# Altium footprint library adafruit.PCBLIB: 624 footprints (part 26 of 39)
Each footprint in its own frame and in the unit in brackets; x right, y up, seen from the top. Pads: shape width x height; smd on the part's side, far side on the other; paste and mask are expansions set on the pad; w line width, h text height; cw(c..) or ccw(c..) is an arc to the next point about the centre after c.
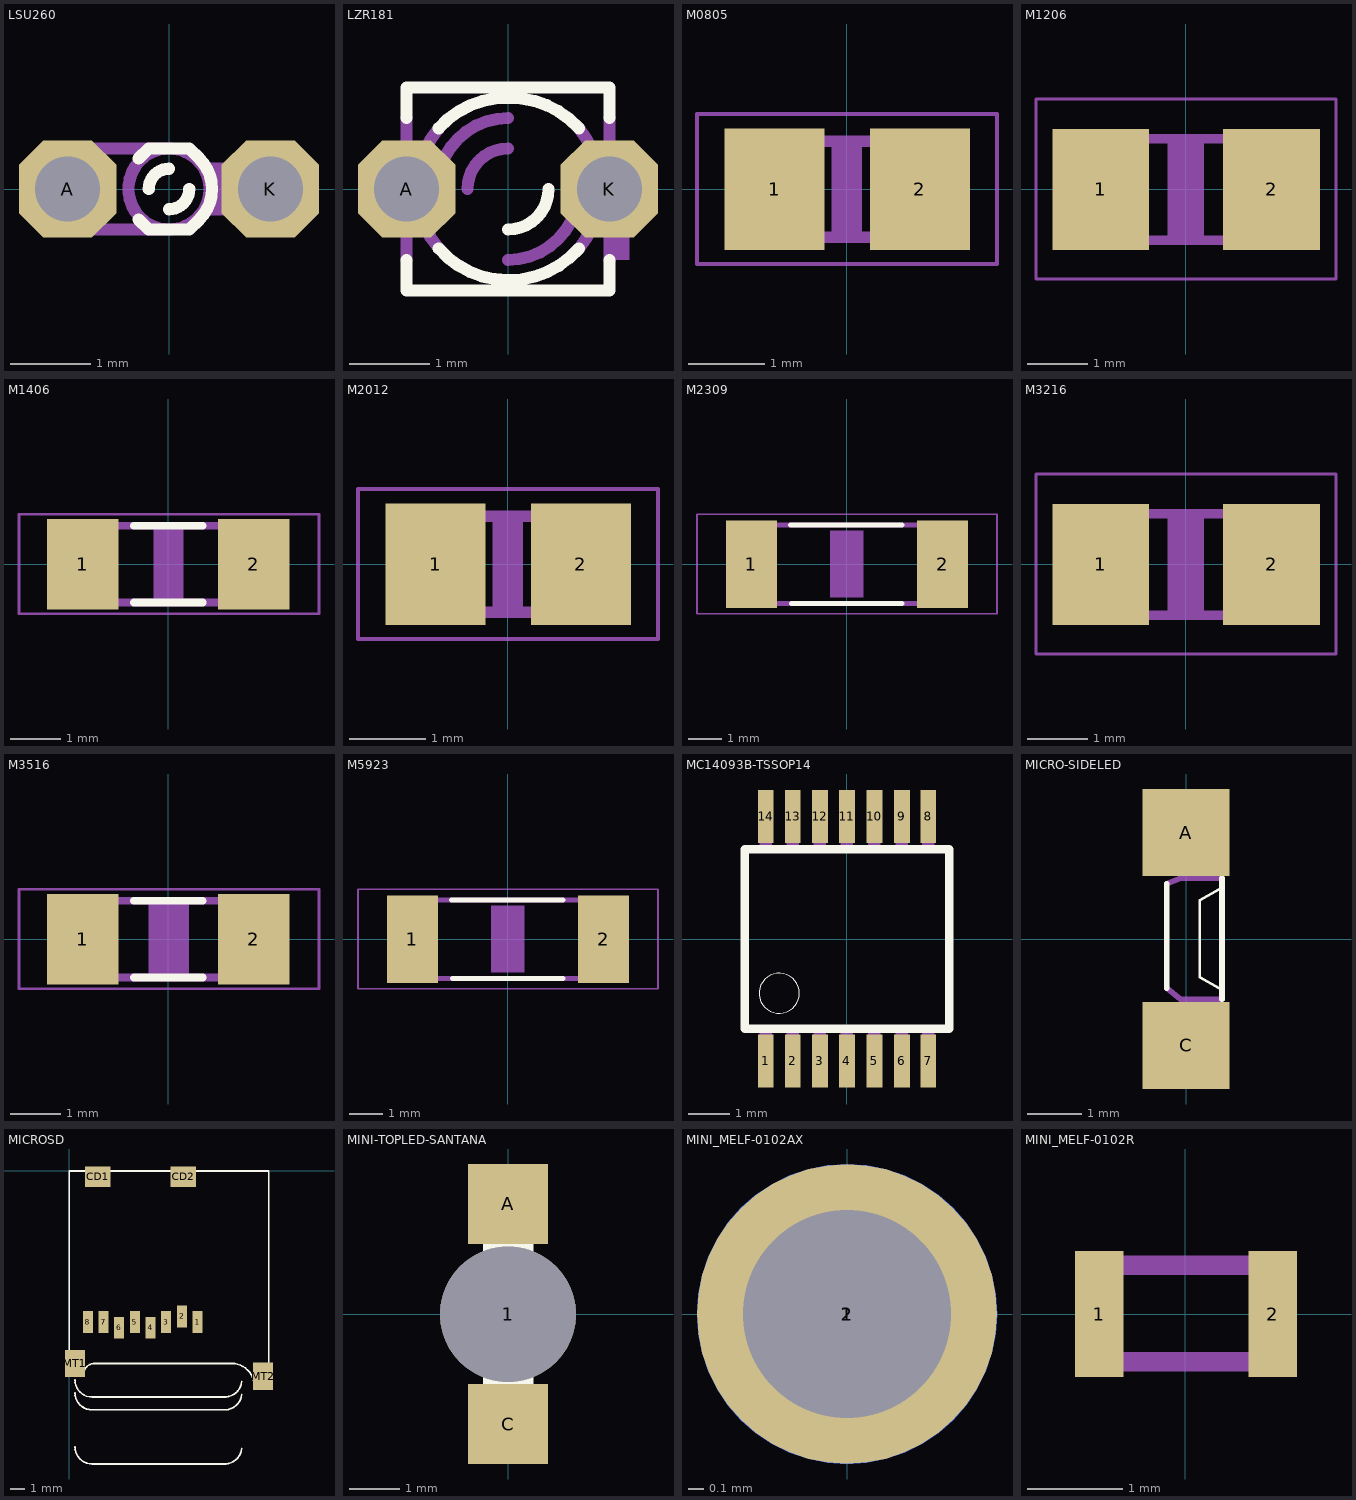
[diagram p25: the footprints below, top view; thin cyan lines are the x and y axes]

## LSU260 [mil]
pads (2):
  oct 48x48 hole 32: A(-50,0) K(50,0)
Top Overlay:
  lines w6: -15,-15 -10,-20 10,-20 15,-15 ccw(c0,0) 15,15 10,20 -10,20 -15,15 ; -10,0 cw(c0,0) 0,10 ; 0,-10 ccw(c0,0) 10,0
Mechanical 16:
  circle w6: c0,0 r20
  rectangle: -55,-10 -45,10
  rectangle: 20,-10 55,10
  lines w6: 0,-20 -45,-20 -45,-10 ; 0,20 -45,20 -45,10 ; 20,-10 55,-10 55,10 20,10 ; -45,-10 -55,-10 -55,10 -45,10 ; -45,-10 -45,10

## LZR181 [mil]
pads (2):
  oct 48x48 hole 32: A(-50,0) K(50,0)
Top Overlay:
  lines w6: -50,-35 -50,-50 50,-50 50,-35 ; -50,35 -50,50 50,50 50,35 ; -34.17,-29.29 ccw(c0,0) 0,-45 ccw(c0.42,0.91) 35,-29.29 ; -34.17,30 cw(c-0.78,0.36) 0,45 cw(c1.19,-0.55) 35,30 ; 0,-20 ccw(c0,0) 20,0
Mechanical 16:
  rectangle: 50,-35 60,10
  rectangle: -60,-10 -50,10
  lines w6: -50,-35 -50,35 ; -35,0 cw(c0,0) 0,35 ; -34.17,-29.29 cw(c0,0) -45,0 cw(c0.96,0.36) -34.17,30 ; -20,0 cw(c0,0) 0,20 ; 0,-35 ccw(c0,0) 35,0 ; 35,-29.29 ccw(c0.42,-1.13) 45,0 ccw(c-0.55,1.48) 35,30 ; 50,-35 50,35

## M0805 [mil]
pads (2):
  rect 52x63 smd: 1(-37.4,0) 2(38,0)
Mechanical 6:
  rectangle: -7.87,-23.62 8,24
Mechanical 16:
  rectangle: -41,-28 -27,28
  rectangle: 27,-28 41,28
  lines w6: -28,-25 28,-25 ; -28,25 28,25
Mechanical 27:
  lines w2: -77.68,-38.7 78,-38.7 78,39 -77.68,39 -77.68,-38.7

## M1206 [mil]
pads (2):
  rect 63x79 smd: 1(-55.12,0) 2(56,0)
Mechanical 6:
  rectangle: -11.81,-31.5 12,32
Mechanical 16:
  rectangle: -67,-36 -44,36
  rectangle: 44,-36 67,36
  lines w6: -45,-33 45,-33 ; -45,33 45,33
Mechanical 27:
  lines w2: -97.36,-58.39 98,-58.39 98,59 -97.36,59 -97.36,-58.39

## M1406 [mil]
pads (2):
  rect 56x71 smd: 1(-66.93,0) 2(67,0)
Top Overlay:
  lines w6: -27,-30 27,-30 ; -27,30 27,30
Mechanical 6:
  rectangle: -11.81,-27.56 12,28
Mechanical 16:
  rectangle: -73,-33 -51,33
  rectangle: 51,-33 73,33
  lines w6: -52,-30 52,-30 ; -52,30 52,30
Mechanical 27:
  lines w2: -117.05,-38.7 118,-38.7 118,39 -117.05,39 -117.05,-38.7

## M2012 [mil]
pads (2):
  rect 52x63 smd: 1(-37.4,0) 2(38,0)
Mechanical 6:
  rectangle: -7.87,-23.62 8,24
Mechanical 16:
  rectangle: -41,-28 -27,28
  rectangle: 27,-28 41,28
  lines w6: -28,-25 28,-25 ; -28,25 28,25
Mechanical 27:
  lines w2: -77.68,-38.7 78,-38.7 78,39 -77.68,39 -77.68,-38.7

## M2309 [mil]
pads (2):
  rect 60x103 smd: 1(-112.2,0) 2(113,0)
Top Overlay:
  lines w6: -66,46 65,46 ; -65,-46 65,-46
Mechanical 6:
  rectangle: -19.69,-39.37 20,40
Mechanical 16:
  rectangle: -120,-49 -94,49
  rectangle: 94,-49 120,49
  lines w6: -96,46 95,46 ; -95,-46 95,-46
Mechanical 27:
  lines w2: -176.1,-58.39 177,-58.39 177,59 -176.1,59 -176.1,-58.39

## M3216 [mil]
pads (2):
  rect 63x79 smd: 1(-55.12,0) 2(56,0)
Mechanical 6:
  rectangle: -11.81,-31.5 12,32
Mechanical 16:
  rectangle: -67,-36 -44,36
  rectangle: 44,-36 67,36
  lines w6: -45,-33 45,-33 ; -45,33 45,33
Mechanical 27:
  lines w2: -97.36,-58.39 98,-58.39 98,59 -97.36,59 -97.36,-58.39

## M3516 [mil]
pads (2):
  rect 56x71 smd: 1(-66.93,0) 2(67,0)
Top Overlay:
  lines w6: -27,-30 27,-30 ; -27,30 27,30
Mechanical 6:
  rectangle: -15.75,-27.56 16,28
Mechanical 16:
  rectangle: -73,-33 -51,33
  rectangle: 51,-33 73,33
  lines w6: -52,-30 52,-30 ; -52,30 52,30
Mechanical 27:
  lines w2: -117.05,-38.7 118,-38.7 118,39 -117.05,39 -117.05,-38.7

## M5923 [mil]
pads (2):
  rect 60x103 smd: 1(-112.2,0) 2(113,0)
Top Overlay:
  lines w6: -66,46 65,46 ; -65,-46 65,-46
Mechanical 6:
  rectangle: -19.69,-39.37 20,40
Mechanical 16:
  rectangle: -120,-49 -94,49
  rectangle: 94,-49 120,49
  lines w6: -96,46 95,46 ; -95,-46 95,-46
Mechanical 27:
  lines w2: -176.1,-58.39 177,-58.39 177,59 -176.1,59 -176.1,-58.39

## MC14093B-TSSOP14 [mil]
pads (14):
  rect 15x50 smd: 1(-76.77,-115.16) 2(-51.18,-115.16) 3(-25.59,-115.16) 4(0,-115.16) 5(26,-115.16) 6(52,-115.16) 7(77,-115.16) 8(77,116) 9(52,116) 10(26,116) 11(0,116) 12(-25.59,116) 13(-51.18,116) 14(-76.77,116)
Top Overlay:
  circle w0: c-63.98,-51.18 r19
  lines w8: -96.46,-84.65 97,-84.65 97,85 -96.46,85 -96.46,-84.65
Top Solder:
  rectangle: -86.61,-141.73 -66.93,-86.61
  rectangle: -61.02,-141.73 -41.34,-86.61
  rectangle: -35.43,-141.73 -15.75,-86.61
  rectangle: -9.84,-141.73 10,-86.61
  rectangle: 16,-141.73 36,-86.61
  rectangle: 42,-141.73 62,-86.61
  rectangle: 67,-141.73 87,-86.61
  rectangle: -86.61,87 -66.93,142
  rectangle: -61.02,87 -41.34,142
  rectangle: -35.43,87 -15.75,142
  rectangle: -9.84,87 10,142
  rectangle: 16,87 36,142
  rectangle: 42,87 62,142
  rectangle: 67,87 87,142
Mechanical 16:
  rectangle: -82.68,-129.92 -70.87,-87.6
  rectangle: -57.09,-129.92 -45.28,-87.6
  rectangle: -31.5,-129.92 -19.68,-87.6
  rectangle: -5.91,-129.92 6,-87.6
  rectangle: 20,-129.92 32,-87.6
  rectangle: 46,-129.92 58,-87.6
  rectangle: 71,-129.92 83,-87.6
  region: 83,130 71,130 71,88 83,88
  region: 58,130 46,130 46,88 58,88
  region: 32,130 20,130 20,88 32,88
  region: 6,130 -5.91,130 -5.91,88 6,88
  region: -19.68,130 -31.5,130 -31.5,88 -19.69,88
  region: -45.28,130 -57.09,130 -57.09,88 -45.28,88
  region: -70.87,130 -82.68,130 -82.68,88 -70.87,88

## MICRO-SIDELED [mil]
pads (2):
  rect 63x63 smd: A(0,77) C(0,-76.77)
Top Overlay:
  lines w2: 24,-35.43 10,-27.56 10,28 24,36
  lines w4: -13.78,-35.43 -13.78,40 ; 26,-43.31 26,44
Top Paste:
  rectangle: -13.78,-68.9 14,-45.28
  rectangle: -13.78,46 14,69
Top Solder:
  rectangle: -15.75,44 16,71
  rectangle: -15.75,-70.87 16,-43.31
Mechanical 16:
  rectangle: -4.92,45 5,69
  rectangle: -4.92,-68.9 5,-44.29
  lines w4: -13.78,-35.43 -3.94,-43.31 26,-43.31 ; -13.78,40 -3.94,44 26,44

## MICROSD [mil]
pads (12):
  rect 28x60 smd: 1(355,-418.9) 2(312,-403.15) 3(268,-418.9) 4(225,-434.65) 5(182,-418.9) 6(138,-434.65) 7(95,-418.9) 8(52,-418.9)
  rect 71x56 smd: CD1(79,-17.32) CD2(315,-17.32)
  rect 56x75 smd: MT1(16,-533.07) MT2(536,-568.5)
Top Overlay:
  lines w5: 16,-763.78 ccw(c63.12,-763.9) 63,-811.02 426,-811.02 ccw(c429.85,-763.87) 477,-767.72 ; 16,-614.17 ccw(c63.12,-614.3) 63,-661.42 426,-661.42 ccw(c429.85,-614.26) 477,-618.11 ; 16,-578.74 ccw(c63.12,-578.86) 63,-625.98 426,-625.98 ccw(c429.85,-578.83) 477,-582.68 ; 0,-568.5 0,-1.57 552,-1.57 552,-596.06 512,-596.06 ccw(c449,-596.07) 449,-533.07 67,-533.07 ccw(c71.22,-564.29) 40,-568.5 0,-568.5

## MINI-TOPLED-SANTANA [mil]
pads (3):
  round 107 hole 107: 1(0,0)
  rect 63x63 smd: A(0,87) C(0,-86.61)
Top Overlay:
  rectangle: -7.87,-15.75 6,-1.97
  rectangle: -19.68,40 20,56
  rectangle: -19.68,-55.12 20,-41.34
  lines w4: 14,-39.37 28,-39.37 28,-25.59 ; 14,-39.37 -17.72,-39.37 -27.56,-39.37 -27.56,-29.53 -27.56,40 28,40 28,-25.59 ; 14,-39.37 28,-25.59 ; -17.72,-27.56 18,-27.56 18,28 -17.72,28 -17.72,-27.56
Top Paste:
  rectangle: -19.68,-80.71 20,-61.02
  rectangle: -19.68,62 20,81
Top Solder:
  rectangle: -21.65,60 22,83
  rectangle: -21.65,-82.68 22,-59.06
Mechanical 16:
  rectangle: -19.68,-82.68 20,-55.12
  rectangle: -19.68,56 20,81

## MINI_MELF-0102AX [mil]
pads (3):
  rrect100% 75x75 smd: 1(0,0)
  round 52 hole 52: 1(0,0)
  rrect100% 75x75 smd far side: 2(0,0)
Mechanical 16:
  circle w0: c0,0 r24
Mechanical 30:
  circle w0: c0,0 r24

## MINI_MELF-0102R [mil]
pads (2):
  rect 20x52 smd: 1(-35.43,0) 2(36,0)
Mechanical 16:
  lines w8: -39.37,-19.68 40,-19.68 40,20 -39.37,20 -39.37,-19.68